# EAGLE library part MOD_RN42 (library akita)
Microchip's RN52, Bluetooth module
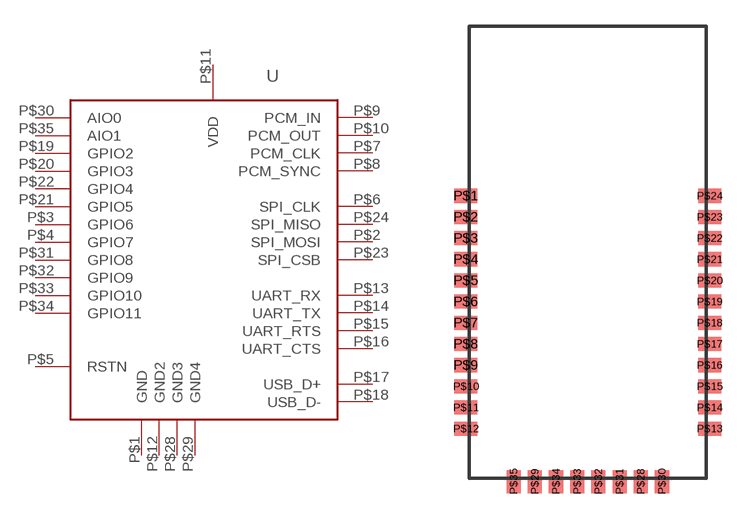
[diagram p188: symbol with the pads of MOD_RN42; footprint MOD_RN42]

Designator prefix U

## MOD_RN42  [MOD_RN42]
P$1  GND
P$2  SPI_MOSI
P$3  GPIO6
P$4  GPIO7
P$5  RSTN
P$6  SPI_CLK
P$7  PCM_CLK
P$8  PCM_SYNC
P$9  PCM_IN
P$10  PCM_OUT
P$11  VDD
P$12  GND2
P$13  UART_RX
P$14  UART_TX
P$15  UART_RTS
P$16  UART_CTS
P$17  USB_D+
P$18  USB_D-
P$19  GPIO2
P$20  GPIO3
P$21  GPIO5
P$22  GPIO4
P$23  SPI_CSB
P$24  SPI_MISO
P$28  GND3
P$29  GND4
P$30  AIO0
P$31  GPIO8
P$32  GPIO9
P$33  GPIO10
P$34  GPIO11
P$35  AIO1

## Footprint MOD_RN42 (pad centres in mm)
Microchip's RN52, Blueooth module
smd 1.3 x 0.8: P$1 -6.9,3.2; P$2 -6.9,2; P$3 -6.9,0.8; P$4 -6.9,-0.4; P$5 -6.9,-1.6; P$6 -6.9,-2.8; P$7 -6.9,-4; P$8 -6.9,-5.2; P$9 -6.9,-6.4; P$10 -6.9,-7.6; P$11 -6.9,-8.8; P$12 -6.9,-10; P$13 6.9,-10; P$14 6.9,-8.8; P$15 6.9,-7.6; P$16 6.9,-6.4; P$17 6.9,-5.2; P$18 6.9,-4; P$19 6.9,-2.8; P$20 6.9,-1.6; P$21 6.9,-0.4; P$22 6.9,0.8; P$23 6.9,2; P$24 6.9,3.2
smd 0.8 x 1.3: P$28 3,-13; P$29 -3,-13; P$30 4.2,-13; P$31 1.8,-13; P$32 0.6,-13; P$33 -0.6,-13; P$34 -1.8,-13; P$35 -4.2,-13